# EAGLE library part 200-015-263R001 (library con-subd)
SUB-D HIGH DENSITY 15 Pin Female
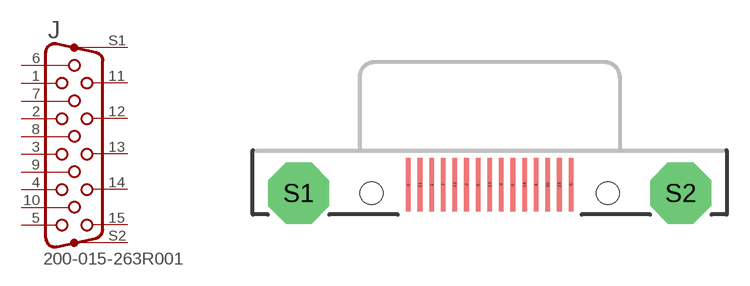
[diagram p83: symbol with the pads of 200-015-263R001; footprint 200-015-263R001]

Designator prefix J

## 200-015-263R001  [200-015-263R001]
1  1  pas
2  2  pas
3  3  pas
4  4  pas
5  5  pas
6  6  pas
7  7  pas
8  8  pas
9  9  pas
10  10  pas
11  11  pas
12  12  pas
13  13  pas
14  14  pas
15  15  pas
S1  G1  pas
S2  G2  pas

## Footprint 200-015-263R001 (pad centres in mm)
CONN HD 15 POS FEMALE SMD
smd 0.3 x 3.5: 1 -3.8,0.55; 2 -1.52,0.55; 3 0.76,0.55; 4 3.04,0.55; 5 5.32,0.55; 6 -5.32,0.55; 7 -3.04,0.55; 8 -0.76,0.55; 9 1.52,0.55; 10 3.8,0.55; 11 -4.56,0.55; 12 -2.28,0.55; 13 0,0.55; 14 2.28,0.55; 15 4.56,0.55
drill 2.54 pad 4 octagon: S1 -12.497,0; S2 12.497,0
hole 1.499 at -7.734,0
hole 1.499 at 7.734,0